# Altium footprint library Microchip I2C Serial EEPROM.PcbLib: 50 footprints (part 1 of 4)
Each footprint in its own frame and in the unit in brackets; x right, y up, seen from the top. Pads: shape width x height; smd on the part's side, far side on the other; paste and mask are expansions set on the pad; w line width, h text height; cw(c..) or ccw(c..) is an arc to the next point about the centre after c.
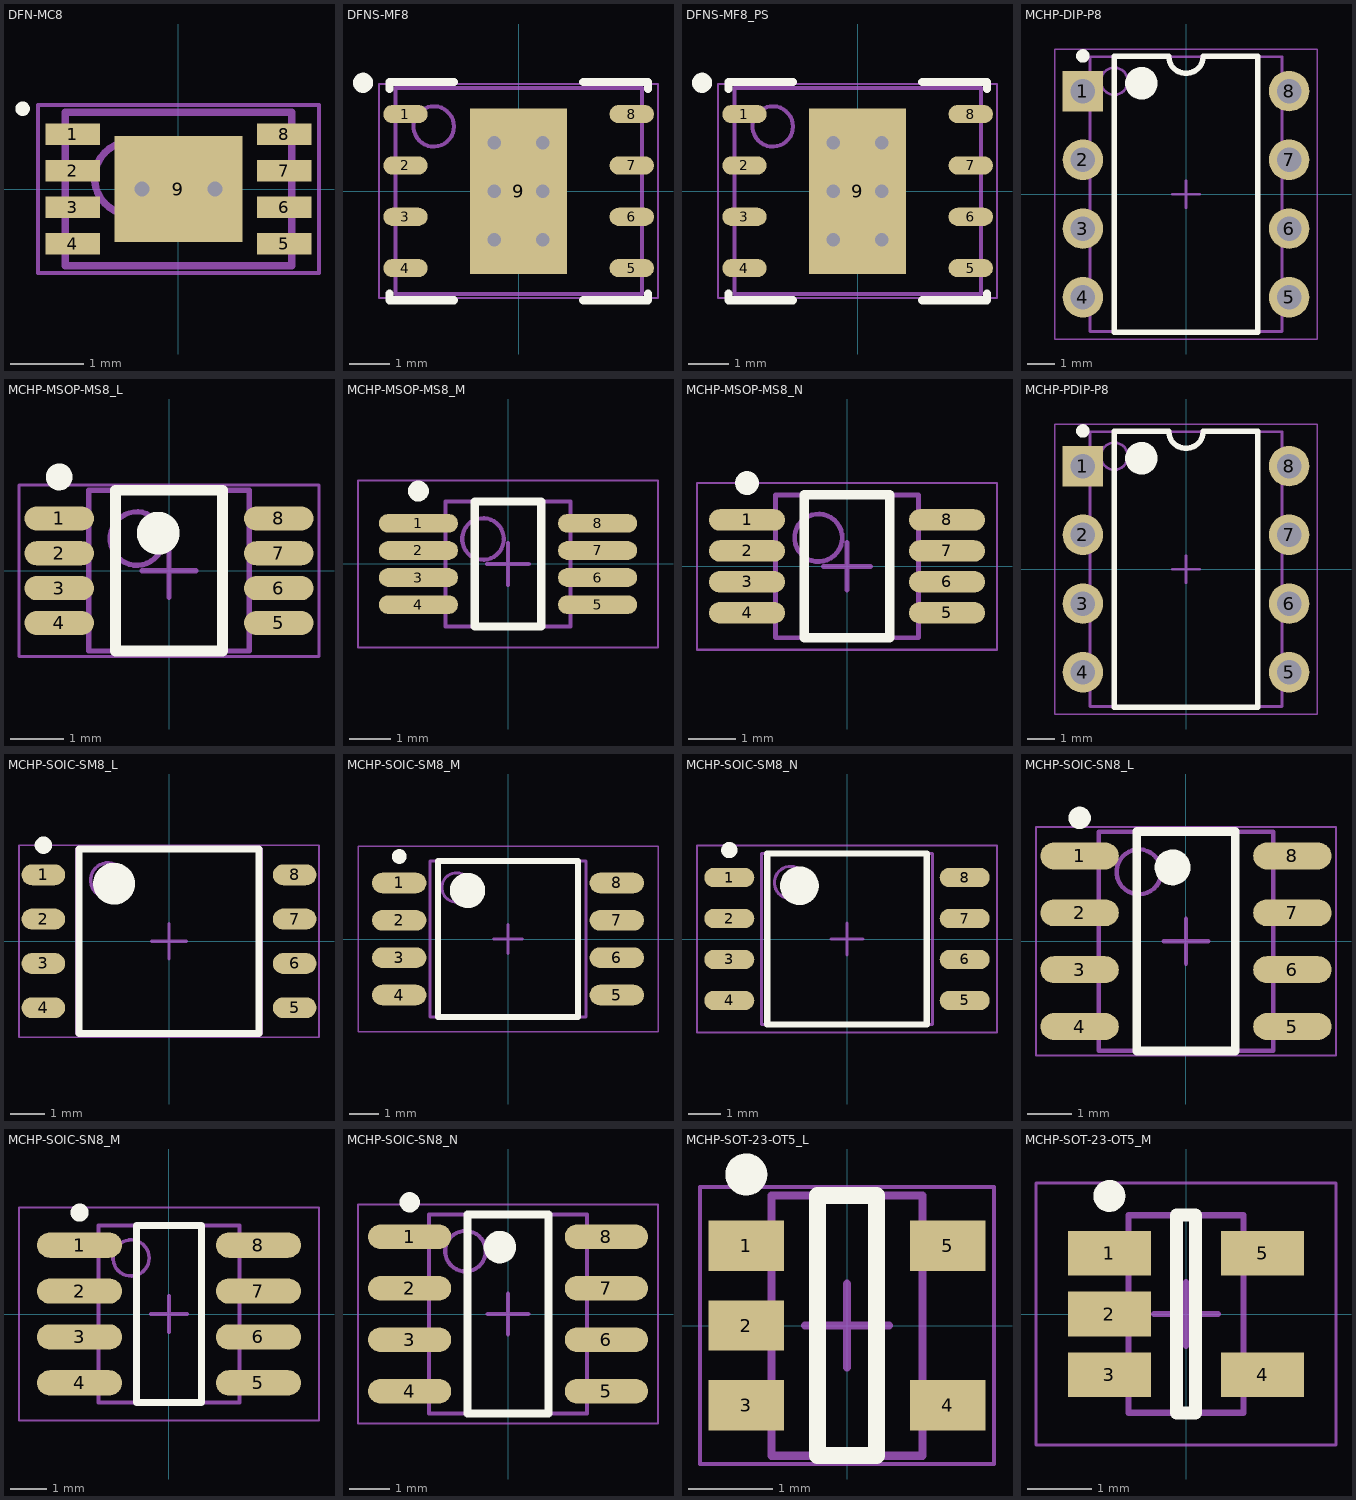
[diagram p0: the footprints below, top view; thin cyan lines are the x and y axes]

## DFN-MC8 [mm] "SON, 8-Leads, Body 2x3mm, Pitch 0.5mm, Microchip Recommended"
height 1
pads (9):
  rect 0.75x0.3 smd: 1(-1.45,0.75) 2(-1.45,0.25) 3(-1.45,-0.25) 4(-1.45,-0.75) 5(1.45,-0.75) 6(1.45,-0.25) 7(1.45,0.25) 8(1.45,0.75)
  rect 1.75x1.45 smd: 9(0,0)
via -0.5,0 diameter 0.5 hole 0.2
via 0.5,0 diameter 0.5 hole 0.2
Top Overlay:
  circle w0.1: c-2.135,1.1 r0.05
Mechanical 13:
  circle w0.1: c-0.65,0.15 r0.5
  lines w0.1: -1.55,-1.05 1.55,-1.05 1.55,1.05 -1.55,1.05 -1.55,-1.05
Mechanical 15:
  lines w0.05: -1.925,-1.15 1.925,-1.15 1.925,1.15 -1.925,1.15 -1.925,-1.15
  lines w0.1: -0.5,0 0.5,0 ; 0,-0.5 0,0.5
3D body: height 1, standoff 0, extent -1.549,-1.049 1.549,1.049

## DFNS-MF8 [mm] "SON, 8-Leads, Body 5x6mm, Pitch 1.27mm, Microchip Recommended"
height 1
pads (9):
  oval 1.1x0.45 smd: 1(-2.8,1.905) 2(-2.8,0.635) 3(-2.8,-0.635) 4(-2.8,-1.905) 5(2.8,-1.905) 6(2.8,-0.635) 7(2.8,0.635) 8(2.8,1.905)
  rect 2.4x4.1 smd: 9(0,0)
via 0.6,-1.2 diameter 0.66 hole 0.33
via -0.6,-1.2 diameter 0.66 hole 0.33
via 0.6,0 diameter 0.66 hole 0.33
via -0.6,0 diameter 0.66 hole 0.33
via 0.6,1.2 diameter 0.66 hole 0.33
via -0.6,1.2 diameter 0.66 hole 0.33
Top Overlay:
  circle w0.25: c-3.85,2.68 r0.125
  lines w0.2: -3.2,-2.53 -3.2,-2.7 -1.6,-2.7 ; -3.2,2.53 -3.2,2.7 -1.6,2.7 ; 1.6,-2.7 3.2,-2.7 3.2,-2.53 ; 1.6,2.7 3.2,2.7 3.2,2.53
Mechanical 13:
  circle w0.1: c-2.1,1.6 r0.5
  lines w0.1: -3.05,-2.55 3.05,-2.55 3.05,2.55 -3.05,2.55 -3.05,-2.55
Mechanical 15:
  lines w0.05: -3.45,-2.65 -3.45,2.65 3.45,2.65 3.45,-2.65 -3.45,-2.65
  lines w0.1: -0.5,0 0.5,0 ; 0,-0.5 0,0.5
3D body: height 1, standoff 0, extent -3.05,-2.55 3.05,2.55

## DFNS-MF8_PS [mm] "SON, 8-Leads, Body 5x6mm, Pitch 1.27mm"
height 1
pads (9):
  oval 1.1x0.45 smd: 1(-2.8,1.905) 2(-2.8,0.635) 3(-2.8,-0.635) 4(-2.8,-1.905) 5(2.8,-1.905) 6(2.8,-0.635) 7(2.8,0.635) 8(2.8,1.905)
  rect 2.4x4.1 smd: 9(0,0)
via -0.6,1.2 diameter 0.66 hole 0.33
via 0.6,1.2 diameter 0.66 hole 0.33
via -0.6,0 diameter 0.66 hole 0.33
via 0.6,0 diameter 0.66 hole 0.33
via -0.6,-1.2 diameter 0.66 hole 0.33
via 0.6,-1.2 diameter 0.66 hole 0.33
Top Overlay:
  circle w0.25: c-3.85,2.68 r0.125
  lines w0.2: -3.2,-2.53 -3.2,-2.7 -1.6,-2.7 ; -3.2,2.53 -3.2,2.7 -1.6,2.7 ; 1.6,-2.7 3.2,-2.7 3.2,-2.53 ; 1.6,2.7 3.2,2.7 3.2,2.53
Mechanical 13:
  circle w0.1: c-2.1,1.6 r0.5
  lines w0.1: -3.05,-2.55 -3.05,2.55 3.05,2.55 3.05,-2.55 -3.05,-2.55
Mechanical 15:
  lines w0.05: -3.45,-2.65 3.45,-2.65 3.45,2.65 -3.45,2.65 -3.45,-2.65
  lines w0.1: -0.5,0 0.5,0 ; 0,-0.5 0,0.5
3D body: height 1, standoff 0, extent -3.05,-2.55 3.05,2.55

## MCHP-DIP-P8 [mm] "DIP, 8-Leads, Body 0.365x0.31mm, Pitch 0.1mm"
height 5.34
pads (8):
  rect 1.5x1.5 hole 0.9: 1(-3.81,3.81)
  round 1.5 hole 0.9: 2(-3.81,1.27) 3(-3.81,-1.27) 4(-3.81,-3.81) 5(3.81,-3.81) 6(3.81,-1.27) 7(3.81,1.27) 8(3.81,3.81)
Top Overlay:
  circle w0.25: c-3.81,5.11 r0.125
  circle w0.6: c-1.65,4.1 r0.3
  lines w0.2: -2.65,-5.1 -2.65,5.1 -0.635,5.1 ccw(c0,5.1) 0.635,5.1 2.65,5.1 2.65,-5.1 -2.65,-5.1
Mechanical 13:
  circle w0.1: c-2.65,4.175 r0.5
  lines w0.1: -3.55,-5.075 -3.55,5.075 3.55,5.075 3.55,-5.075 -3.55,-5.075
Mechanical 15:
  lines w0.05: -4.85,-5.35 -4.85,5.35 4.85,5.35 4.85,-5.35 -4.85,-5.35
  lines w0.1: -0.5,0 0.5,0 ; 0,-0.5 0,0.5
3D body "DIP8.step": height 4.8, standoff -3.3, extent -3.935,-4.773 3.935,5.027

## MCHP-MSOP-MS8_L [mm] "SOP, 8-Leads, Body 3x3mm, Pitch 0.65mm, IPC High Density"
height 1.1
pads (8):
  oval 1.3x0.45 smd: 1(-2.05,0.975) 2(-2.05,0.325) 3(-2.05,-0.325) 4(-2.05,-0.975) 5(2.05,-0.975) 6(2.05,-0.325) 7(2.05,0.325) 8(2.05,0.975)
Top Overlay:
  circle w0.25: c-2.05,1.75 r0.125
  circle w0.4: c-0.2,0.7 r0.2
  lines w0.2: -1,-1.5 -1,1.5 1,1.5 1,-1.5 -1,-1.5
Mechanical 13:
  circle w0.1: c-0.6,0.6 r0.5
  lines w0.1: -1.5,-1.5 -1.5,1.5 1.5,1.5 1.5,-1.5 -1.5,-1.5
Mechanical 15:
  lines w0.05: -2.8,-1.6 -2.8,1.6 2.8,1.6 2.8,-1.6 -2.8,-1.6
  lines w0.1: -0.5,0 0.5,0 ; 0,-0.5 0,0.5
3D body "MSOP8.step": height 1.15, standoff 0, extent -2.45,-1.5 2.45,1.5

## MCHP-MSOP-MS8_M [mm] "SOP, 8-Leads, Body 3x3mm, Pitch 0.65mm, IPC Low Density"
height 1.1
pads (8):
  oval 1.9x0.45 smd: 1(-2.15,0.975) 2(-2.15,0.325) 3(-2.15,-0.325) 4(-2.15,-0.975) 5(2.15,-0.975) 6(2.15,-0.325) 7(2.15,0.325) 8(2.15,0.975)
Top Overlay:
  circle w0.25: c-2.15,1.75 r0.125
  lines w0.2: -0.8,-1.5 0.8,-1.5 0.8,1.5 -0.8,1.5 -0.8,-1.5
Mechanical 13:
  circle w0.1: c-0.6,0.6 r0.5
  lines w0.1: -1.5,-1.5 1.5,-1.5 1.5,1.5 -1.5,1.5 -1.5,-1.5
Mechanical 15:
  lines w0.05: -3.6,-2 3.6,-2 3.6,2 -3.6,2 -3.6,-2
  lines w0.1: -0.5,0 0.5,0 ; 0,-0.5 0,0.5
3D body "MSOP8.step": height 1.15, standoff 0, extent -2.45,-1.5 2.45,1.5

## MCHP-MSOP-MS8_N [mm] "SOP, 8-Leads, Body 3x3mm, Pitch 0.65mm, IPC Medium Density"
height 1.1
pads (8):
  oval 1.6x0.45 smd: 1(-2.1,0.975) 2(-2.1,0.325) 3(-2.1,-0.325) 4(-2.1,-0.975) 5(2.1,-0.975) 6(2.1,-0.325) 7(2.1,0.325) 8(2.1,0.975)
Top Overlay:
  circle w0.25: c-2.1,1.75 r0.125
  lines w0.2: -0.9,-1.5 -0.9,1.5 0.9,1.5 0.9,-1.5 -0.9,-1.5
Mechanical 13:
  circle w0.1: c-0.6,0.6 r0.5
  lines w0.1: -1.5,-1.5 -1.5,1.5 1.5,1.5 1.5,-1.5 -1.5,-1.5
Mechanical 15:
  lines w0.05: -3.15,-1.75 -3.15,1.75 3.15,1.75 3.15,-1.75 -3.15,-1.75
  lines w0.1: -0.5,0 0.5,0 ; 0,-0.5 0,0.5
3D body "MSOP8.step": height 1.15, standoff 0, extent -2.45,-1.5 2.45,1.5

## MCHP-PDIP-P8 [mm] "PDIP, 8-Leads, Body 9.5x6.604mm, Pitch 2.54mm"
height 5.34
pads (8):
  rect 1.5x1.5 hole 0.9: 1(-3.81,3.81)
  round 1.5 hole 0.9: 2(-3.81,1.27) 3(-3.81,-1.27) 4(-3.81,-3.81) 5(3.81,-3.81) 6(3.81,-1.27) 7(3.81,1.27) 8(3.81,3.81)
Top Overlay:
  circle w0.6: c-1.65,4.1 r0.3
  circle w0.25: c-3.81,5.11 r0.125
  lines w0.2: -2.65,-5.1 2.65,-5.1 2.65,5.1 0.635,5.1 cw(c0,5.1) -0.635,5.1 -2.65,5.1 -2.65,-5.1
Mechanical 13:
  circle w0.1: c-2.65,4.175 r0.5
  lines w0.1: -3.55,-5.075 3.55,-5.075 3.55,5.075 -3.55,5.075 -3.55,-5.075
Mechanical 15:
  lines w0.05: -4.85,-5.35 4.85,-5.35 4.85,5.35 -4.85,5.35 -4.85,-5.35
  lines w0.1: -0.5,0 0.5,0 ; 0,-0.5 0,0.5
3D body "DIP8.step": height 4.8, standoff -3.3, extent -3.935,-4.773 3.935,5.027

## MCHP-SOIC-SM8_L [mm] "SOIC, 8-Leads, Body 5.26x5.25mm, Pitch 1.27mm, IPC High Density"
height 2.03
pads (8):
  oval 1.25x0.6 smd: 1(-3.6,1.905) 2(-3.6,0.635) 3(-3.6,-0.635) 4(-3.6,-1.905) 5(3.6,-1.905) 6(3.6,-0.635) 7(3.6,0.635) 8(3.6,1.905)
Top Overlay:
  circle w0.25: c-3.6,2.755 r0.125
  circle w0.6: c-1.575,1.65 r0.3
  lines w0.2: -2.575,-2.65 -2.575,2.65 2.575,2.65 2.575,-2.65 -2.575,-2.65
Mechanical 13:
  circle w0.1: c-1.75,1.75 r0.5
  lines w0.1: -2.65,-2.65 -2.65,2.65 2.65,2.65 2.65,-2.65 -2.65,-2.65
Mechanical 15:
  lines w0.05: -4.3,-2.75 -4.3,2.75 4.3,2.75 4.3,-2.75 -4.3,-2.75
  lines w0.1: -0.5,0 0.5,0 ; 0,-0.5 0,0.5
3D body "SOIC8_5.3x5.3mm_Pitch1.27mm.step": height 1.75, standoff 0, extent -3.81,-2.565 3.81,2.565

## MCHP-SOIC-SM8_M [mm] "SOIC, 8-Leads, Body 5.26x5.25mm, Pitch 1.27mm, IPC Low Density"
height 2.03
pads (8):
  oval 1.85x0.7 smd: 1(-3.7,1.905) 2(-3.7,0.635) 3(-3.7,-0.635) 4(-3.7,-1.905) 5(3.7,-1.905) 6(3.7,-0.635) 7(3.7,0.635) 8(3.7,1.905)
Top Overlay:
  circle w0.6: c-1.375,1.65 r0.3
  circle w0.25: c-3.7,2.805 r0.125
  lines w0.2: -2.375,-2.65 2.375,-2.65 2.375,2.65 -2.375,2.65 -2.375,-2.65
Mechanical 13:
  circle w0.1: c-1.75,1.75 r0.5
  lines w0.1: -2.65,-2.65 2.65,-2.65 2.65,2.65 -2.65,2.65 -2.65,-2.65
Mechanical 15:
  lines w0.05: -5.1,-3.15 5.1,-3.15 5.1,3.15 -5.1,3.15 -5.1,-3.15
  lines w0.1: -0.5,0 0.5,0 ; 0,-0.5 0,0.5
3D body "SOIC8_5.3x5.3mm_Pitch1.27mm.step": height 1.75, standoff 0, extent -3.81,-2.565 3.81,2.565

## MCHP-SOIC-SM8_N [mm] "SOIC, 8-Leads, Body 5.26x5.25mm, Pitch 1.27mm, IPC Medium Density"
height 2.03
pads (8):
  oval 1.55x0.6 smd: 1(-3.65,1.905) 2(-3.65,0.635) 3(-3.65,-0.635) 4(-3.65,-1.905) 5(3.65,-1.905) 6(3.65,-0.635) 7(3.65,0.635) 8(3.65,1.905)
Top Overlay:
  circle w0.6: c-1.475,1.65 r0.3
  circle w0.25: c-3.65,2.755 r0.125
  lines w0.2: -2.475,-2.65 2.475,-2.65 2.475,2.65 -2.475,2.65 -2.475,-2.65
Mechanical 13:
  circle w0.1: c-1.75,1.75 r0.5
  lines w0.1: -2.65,-2.65 2.65,-2.65 2.65,2.65 -2.65,2.65 -2.65,-2.65
Mechanical 15:
  lines w0.05: -4.65,-2.9 4.65,-2.9 4.65,2.9 -4.65,2.9 -4.65,-2.9
  lines w0.1: -0.5,0 0.5,0 ; 0,-0.5 0,0.5
3D body "SOIC8_5.3x5.3mm_Pitch1.27mm.step": height 1.75, standoff 0, extent -3.81,-2.565 3.81,2.565

## MCHP-SOIC-SN8_L [mm] "SOIC, 8-Leads, Body 4.9x3.9mm, Pitch 1.27mm, IPC High Density"
height 1.75
pads (8):
  oval 1.75x0.6 smd: 1(-2.375,1.905) 2(-2.375,0.635) 3(-2.375,-0.635) 4(-2.375,-1.905) 5(2.375,-1.905) 6(2.375,-0.635) 7(2.375,0.635) 8(2.375,1.905)
Top Overlay:
  circle w0.4: c-0.3,1.65 r0.2
  circle w0.25: c-2.375,2.755 r0.125
  lines w0.2: -1.1,-2.45 1.1,-2.45 1.1,2.45 -1.1,2.45 -1.1,-2.45
Mechanical 13:
  circle w0.1: c-1.05,1.55 r0.5
  lines w0.1: -1.95,-2.45 1.95,-2.45 1.95,2.45 -1.95,2.45 -1.95,-2.45
Mechanical 15:
  lines w0.05: -3.35,-2.55 3.35,-2.55 3.35,2.55 -3.35,2.55 -3.35,-2.55
  lines w0.1: -0.5,0 0.5,0 ; 0,-0.5 0,0.5
3D body "SOIC8-1EP_3.9x4.9mm_Pitch1.27mm.step": height 1.75, standoff 0, extent -3,-2.45 3,2.45

## MCHP-SOIC-SN8_M [mm] "SOIC, 8-Leads, Body 4.9x3.9mm, Pitch 1.27mm, IPC Low Density"
height 1.75
pads (8):
  oval 2.35x0.7 smd: 1(-2.475,1.905) 2(-2.475,0.635) 3(-2.475,-0.635) 4(-2.475,-1.905) 5(2.475,-1.905) 6(2.475,-0.635) 7(2.475,0.635) 8(2.475,1.905)
Top Overlay:
  circle w0.25: c-2.475,2.805 r0.125
  lines w0.2: -0.9,-2.45 -0.9,2.45 0.9,2.45 0.9,-2.45 -0.9,-2.45
Mechanical 13:
  circle w0.1: c-1.05,1.55 r0.5
  lines w0.1: -1.95,-2.45 -1.95,2.45 1.95,2.45 1.95,-2.45 -1.95,-2.45
Mechanical 15:
  lines w0.05: -4.15,-2.95 -4.15,2.95 4.15,2.95 4.15,-2.95 -4.15,-2.95
  lines w0.1: -0.5,0 0.5,0 ; 0,-0.5 0,0.5
3D body "SOIC8-1EP_3.9x4.9mm_Pitch1.27mm.step": height 1.75, standoff 0, extent -3,-2.45 3,2.45

## MCHP-SOIC-SN8_N [mm] "SOIC, 8-Leads, Body 4.9x3.9mm, Pitch 1.27mm, IPC Medium Density"
height 1.75
pads (8):
  oval 2.05x0.6 smd: 1(-2.425,1.905) 2(-2.425,0.635) 3(-2.425,-0.635) 4(-2.425,-1.905) 5(2.425,-1.905) 6(2.425,-0.635) 7(2.425,0.635) 8(2.425,1.905)
Top Overlay:
  circle w0.4: c-0.2,1.65 r0.2
  circle w0.25: c-2.425,2.755 r0.125
  lines w0.2: -1,-2.45 1,-2.45 1,2.45 -1,2.45 -1,-2.45
Mechanical 13:
  circle w0.1: c-1.05,1.55 r0.5
  lines w0.1: -1.95,-2.45 1.95,-2.45 1.95,2.45 -1.95,2.45 -1.95,-2.45
Mechanical 15:
  lines w0.05: -3.7,-2.7 3.7,-2.7 3.7,2.7 -3.7,2.7 -3.7,-2.7
  lines w0.1: -0.5,0 0.5,0 ; 0,-0.5 0,0.5
3D body "SOIC8-1EP_3.9x4.9mm_Pitch1.27mm.step": height 1.75, standoff 0, extent -3,-2.45 3,2.45

## MCHP-SOT-23-OT5_L [mm] "SOT23, 5-Leads, Body 2.9x1.55mm, Pitch 0.95mm, IPC High Density"
height 1.45
pads (5):
  rect 0.9x0.6 smd: 1(-1.2,0.95) 2(-1.2,0) 3(-1.2,-0.95) 4(1.2,-0.95) 5(1.2,0.95)
Top Overlay:
  circle w0.25: c-1.2,1.8 r0.125
  lines w0.2: -0.35,-1.55 -0.35,1.55 0.35,1.55 0.35,-1.55 -0.35,-1.55
Mechanical 13:
  lines w0.1: -0.9,-1.55 0.9,-1.55 0.9,1.55 -0.9,1.55 -0.9,-1.55
Mechanical 15:
  lines w0.05: -1.75,-1.65 1.75,-1.65 1.75,1.65 -1.75,1.65 -1.75,-1.65
  lines w0.1: -0.5,0 0.5,0 ; 0,-0.5 0,0.5
3D body "SOT23-5-2.step": height 1.45, standoff 0, extent -1.4,-1.45 1.4,1.45

## MCHP-SOT-23-OT5_M [mm] "SOT23, 5-Leads, Body 2.9x1.55mm, Pitch 0.95mm, IPC Low Density"
height 1.45
pads (5):
  rect 1.3x0.7 smd: 1(-1.2,0.95) 2(-1.2,0) 3(-1.2,-0.95) 4(1.2,-0.95) 5(1.2,0.95)
Top Overlay:
  circle w0.25: c-1.2,1.85 r0.125
  lines w0.2: -0.15,-1.55 -0.15,1.55 0.15,1.55 0.15,-1.55 -0.15,-1.55
Mechanical 13:
  lines w0.1: -0.9,-1.55 0.9,-1.55 0.9,1.55 -0.9,1.55 -0.9,-1.55
Mechanical 15:
  lines w0.05: -2.35,-2.05 2.35,-2.05 2.35,2.05 -2.35,2.05 -2.35,-2.05
  lines w0.1: -0.5,0 0.5,0 ; 0,-0.5 0,0.5
3D body "SOT23-5-2.step": height 1.45, standoff 0, extent -1.4,-1.45 1.4,1.45